# EAGLE library part SOIC-8 (library SMD_Qualifier)
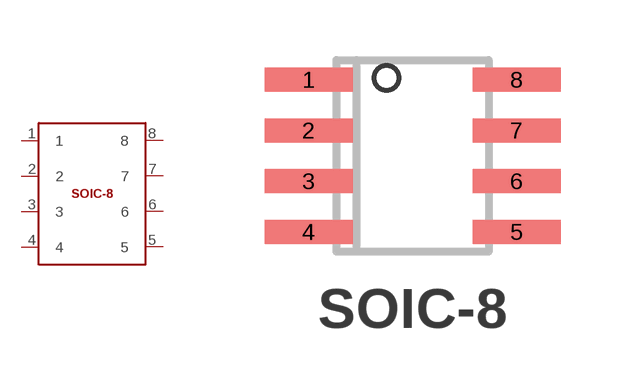
[diagram p11: symbol with the pads of SOIC-8; footprint SOIC-8]

Designator prefix -

## SOIC-8  [SOIC-8]
1  1
2  2  in
3  3
4  4
5  5
6  6
7  7
8  8

## Footprint SOIC-8 (pad centres in mm)
SOIC-8, 1.27 mm pitch
smd 2.2 x 0.6: 1 -2.6,1.905; 2 -2.6,0.635; 3 -2.6,-0.635; 4 -2.6,-1.905; 5 2.6,-1.905; 6 2.6,-0.635; 7 2.6,0.635; 8 2.6,1.905